# Altium schematic symbol library SkillDevSchemLib.SchLib: 4 symbols
Pins are listed as number, name and electrical type; pins without a type are passive.

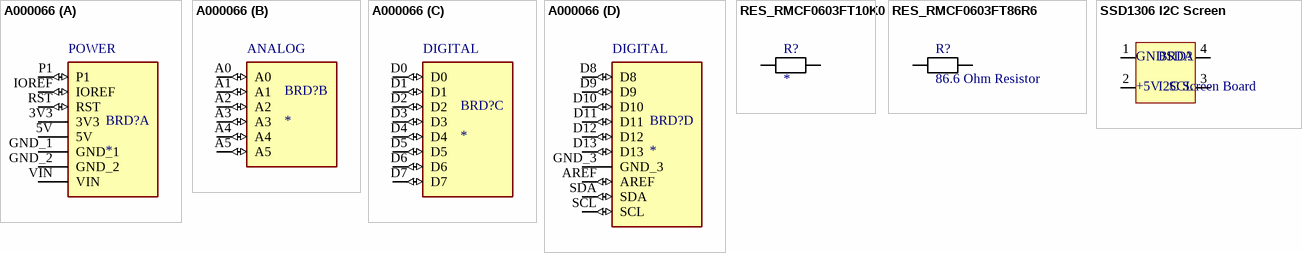
[diagram p0: symbols A000066 to SSD1306 I2C Screen]

## A000066
designator BRD?
Microcontroller board based on the ATmega328P.; MF: Arduino; MP: Arduino Uno Rev3; Value: *; SnapEDA_Link: https://www.snapeda.com/parts/Arduino%20Uno%20Rev3/Arduino/view-part/?ref=snap; Availability: Not in stock; Price: None; Package: Non-Standard Arduino; Check_prices: https://www.snapeda.com/parts/Arduino%20Uno%20Rev3/Arduino/view-part/?ref=eda
footprint ARDUINO_A000066
part A pins: 3V3 (power), 5V (power), GND_1 (power), GND_2 (power), IOREF (io), P1 (io), RST (io), VIN (power)
part B pins: A0 (io), A1 (io), A2 (io), A3 (io), A4 (io), A5 (io)
part C pins: D0 (io), D1 (io), D2 (io), D3 (io), D4 (io), D5 (io), D6 (io), D7 (io)
part D pins: AREF (io), D8 (io), D9 (io), D10 (io), D11 (io), D12 (io), D13 (io), GND_3 (power), SCL (io), SDA (io)
part A text: POWER
part B text: ANALOG
part C text: DIGITAL
part D text: DIGITAL

## RES_RMCF0603FT10K0
designator R?
RES 10K OHM 1% 1/10W 0603; Part Number: RMCF0603FT10K0; Manufacturer: Stackpole Electronics Inc
footprint RES_RMCF0603 (Footprint for RMCF0603FT10K0 Resistor)
pins: 1, 2

## RES_RMCF0603FT86R6
designator R?, comment 86.6 Ohm Resistor
86.6 Ohms ±1% 0.1W, 1/10W Chip Resistor 0603 (1608 Metric) Automotive AEC-Q200 Thick Film; Manufacturer: Stackpole Electronics Inc; Part Number: RMCF0603FT10K0
footprint RES_RMCF0603 (Footprint for RMCF0603FT10K0 Resistor)
pins: 1, 2

## SSD1306 I2C Screen
designator BRD?, comment I2C Screen Board
Hosyond 0.96 Inch OLED I2C IIC Display Module 12864 128x64 Pixel SSD1306 Mini Self-Luminous OLED Screen Board
footprint SSD1306 I2C Screen (Footprint for SSD1306 I2C screen on seperate board)
pins: 1 (power), 2 (power), 3, 4
text: GND; SDA; +5V; SCL